# Altium schematic symbol library 2-1879462-9.SchLib: 1 symbol
Pins are listed as number, name and electrical type; pins without a type are passive.

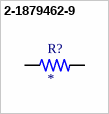
[diagram p0: symbol 2-1879462-9]

## 2-1879462-9
designator R?
RL73H 2B R24 1% 1K RL; MP: 2-1879462-9; MF: {'manufacturer': u'TE Connectivity'}; Price: None; Package: None; Value: *; Availability: Unavailable
footprint RESC3115X65N
pins: 1, 2